# Altium schematic symbol library Capital.SchLib: 32 symbols
Pins are listed as number, name and electrical type; pins without a type are passive.

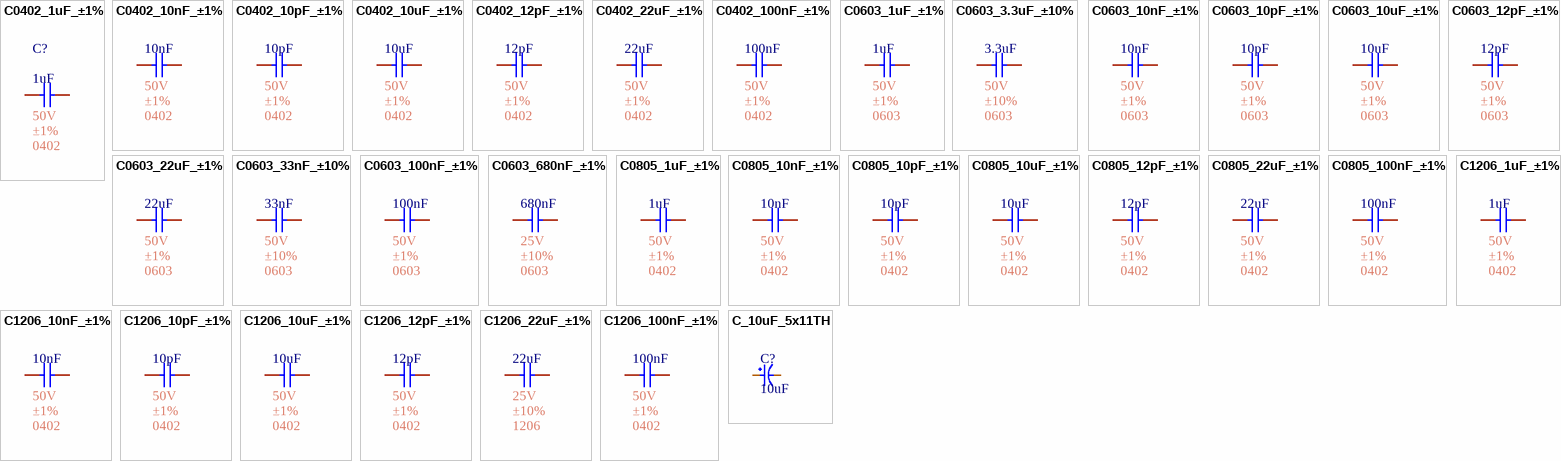
[diagram p0: symbols C0402_1uF_±1% to C_10uF_5x11TH]

## C0402_1uF_±1%
designator C?, comment 1uF  Tolerance: ±1%  Package: 0402  Voltage Rating: 50V
50V 10pF NP0 ±1% 0402 Multilayer Ceramic Capacitors MLCC - SMD/SMT ROHS; Manufacturer: YAGEO; Mfr. Part #: CC0402FRNPO9BN100; LCSC Part #: C513681; Link: https://www.lcsc.com/product-detail/C513681.html?s_z=n_capital%2520yageo%252010pF%25200402; Capacitance: 1uF
footprint C0402
pins: 1, 2

## C0402_10nF_±1%
designator C?, comment 10nF  Tolerance: ±1%  Package: 0402  Voltage Rating: 50V
50V 10pF NP0 ±1% 0402 Multilayer Ceramic Capacitors MLCC - SMD/SMT ROHS; Manufacturer: YAGEO; Mfr. Part #: CC0402FRNPO9BN100; LCSC Part #: C513681; Link: https://www.lcsc.com/product-detail/C513681.html?s_z=n_capital%2520yageo%252010pF%25200402; Capacitance: 10nF
footprint C0402
pins: 1, 2

## C0402_10pF_±1%
designator C?, comment 10pF  Tolerance: ±1%  Package: 0402  Voltage Rating: 50V
50V 10pF NP0 ±1% 0402 Multilayer Ceramic Capacitors MLCC - SMD/SMT ROHS; Manufacturer: YAGEO; Mfr. Part #: CC0402FRNPO9BN100; LCSC Part #: C513681; Link: https://www.lcsc.com/product-detail/C513681.html?s_z=n_capital%2520yageo%252010pF%25200402; Capacitance: 10pF
footprint C0402
pins: 1, 2

## C0402_10uF_±1%
designator C?, comment 10uF  Tolerance: ±1%  Package: 0402  Voltage Rating: 50V
50V 10pF NP0 ±1% 0402 Multilayer Ceramic Capacitors MLCC - SMD/SMT ROHS; Manufacturer: YAGEO; Mfr. Part #: CC0402FRNPO9BN100; LCSC Part #: C513681; Link: https://www.lcsc.com/product-detail/C513681.html?s_z=n_capital%2520yageo%252010pF%25200402; Capacitance: 10uF
footprint C0402
pins: 1, 2

## C0402_12pF_±1%
designator C?, comment 12pF  Tolerance: ±1%  Package: 0402  Voltage Rating: 50V
50V 10pF NP0 ±1% 0402 Multilayer Ceramic Capacitors MLCC - SMD/SMT ROHS; Manufacturer: YAGEO; Mfr. Part #: CC0402FRNPO9BN100; LCSC Part #: C513681; Link: https://www.lcsc.com/product-detail/C513681.html?s_z=n_capital%2520yageo%252010pF%25200402; Capacitance: 12pF
footprint C0402
pins: 1, 2

## C0402_22uF_±1%
designator C?, comment 22uF  Tolerance: ±1%  Package: 0402  Voltage Rating: 50V
50V 10pF NP0 ±1% 0402 Multilayer Ceramic Capacitors MLCC - SMD/SMT ROHS; Manufacturer: YAGEO; Mfr. Part #: CC0402FRNPO9BN100; LCSC Part #: C513681; Link: https://www.lcsc.com/product-detail/C513681.html?s_z=n_capital%2520yageo%252010pF%25200402; Capacitance: 22uF
footprint C0402
pins: 1, 2

## C0402_100nF_±1%
designator C?, comment 100nF  Tolerance: ±1%  Package: 0402  Voltage Rating: 50V
50V 10pF NP0 ±1% 0402 Multilayer Ceramic Capacitors MLCC - SMD/SMT ROHS; Manufacturer: YAGEO; Mfr. Part #: CC0402FRNPO9BN100; LCSC Part #: C513681; Link: https://www.lcsc.com/product-detail/C513681.html?s_z=n_capital%2520yageo%252010pF%25200402; Capacitance: 100nF
footprint C0402
pins: 1, 2

## C0603_1uF_±1%
designator C?, comment 1uF  Tolerance: ±1%  Package: 0603  Voltage Rating: 50V
50V 10pF NP0 ±1% 0402 Multilayer Ceramic Capacitors MLCC - SMD/SMT ROHS; Manufacturer: YAGEO; Mfr. Part #: CC0402FRNPO9BN100; LCSC Part #: C513681; Link: https://www.lcsc.com/product-detail/C513681.html?s_z=n_capital%2520yageo%252010pF%25200402; Capacitance: 1uF
footprint Model Name (Model Description)
footprint C0603
pins: 1, 2

## C0603_3.3uF_±10%
designator C?, comment 3.3uF  Tolerance: ±10%  Package: 0603  Voltage Rating: 50V
50V 10pF NP0 ±1% 0402 Multilayer Ceramic Capacitors MLCC - SMD/SMT ROHS; Manufacturer: muRata; Mfr. Part #: GCJ188C70J335KE02D; Temperature Coefficient: X7S; LCSC Part #: C710616; Link: https://www.lcsc.com/product-detail/C710616.html?s_z=n_Capita%25200603%25203.3uF%2520yageo; Capacitance: 3.3uF
footprint C0603
pins: 1, 2

## C0603_10nF_±1%
designator C?, comment 10nF  Tolerance: ±1%  Package: 0603  Voltage Rating: 50V
50V 10pF NP0 ±1% 0402 Multilayer Ceramic Capacitors MLCC - SMD/SMT ROHS; Manufacturer: YAGEO; Mfr. Part #: CC0402FRNPO9BN100; LCSC Part #: C513681; Link: https://www.lcsc.com/product-detail/C513681.html?s_z=n_capital%2520yageo%252010pF%25200402; Capacitance: 10nF
footprint C0603
pins: 1, 2

## C0603_10pF_±1%
designator C?, comment 10pF  Tolerance: ±1%  Package: 0603  Voltage Rating: 50V
50V 10pF NP0 ±1% 0402 Multilayer Ceramic Capacitors MLCC - SMD/SMT ROHS; Manufacturer: YAGEO; Mfr. Part #: CC0402FRNPO9BN100; LCSC Part #: C513681; Link: https://www.lcsc.com/product-detail/C513681.html?s_z=n_capital%2520yageo%252010pF%25200402; Capacitance: 10pF
footprint C0603
pins: 1, 2

## C0603_10uF_±1%
designator C?, comment 10uF  Tolerance: ±1%  Package: 0603  Voltage Rating: 50V
50V 10pF NP0 ±1% 0402 Multilayer Ceramic Capacitors MLCC - SMD/SMT ROHS; Manufacturer: YAGEO; Mfr. Part #: CC0402FRNPO9BN100; LCSC Part #: C513681; Link: https://www.lcsc.com/product-detail/C513681.html?s_z=n_capital%2520yageo%252010pF%25200402; Capacitance: 10uF
footprint C0603
pins: 1, 2

## C0603_12pF_±1%
designator C?, comment 12pF  Tolerance: ±1%  Package: 0603  Voltage Rating: 50V
50V 10pF NP0 ±1% 0402 Multilayer Ceramic Capacitors MLCC - SMD/SMT ROHS; Manufacturer: YAGEO; Mfr. Part #: CC0402FRNPO9BN100; LCSC Part #: C513681; Link: https://www.lcsc.com/product-detail/C513681.html?s_z=n_capital%2520yageo%252010pF%25200402; Capacitance: 12pF
footprint C0603
pins: 1, 2

## C0603_22uF_±1%
designator C?, comment 22uF  Tolerance: ±1%  Package: 0603  Voltage Rating: 50V
50V 10pF NP0 ±1% 0402 Multilayer Ceramic Capacitors MLCC - SMD/SMT ROHS; Manufacturer: YAGEO; Mfr. Part #: CC0402FRNPO9BN100; LCSC Part #: C513681; Link: https://www.lcsc.com/product-detail/C513681.html?s_z=n_capital%2520yageo%252010pF%25200402; Capacitance: 22uF
footprint C0603
pins: 1, 2

## C0603_33nF_±10%
designator C?, comment 33nF  Tolerance: ±10%  Package: 0603  Voltage Rating: 50V
100mW Thick Film Resistor 75V ±100ppm/℃ ±1% 470Ω 0603 Chip Resistor - Surface Mount ROHS; Manufacturer: YAGEO; Mfr. Part #: CC0603KRX7R9BB333; Temperature Coefficient: X7R; LCSC Part #: C106856; Link: https://www.lcsc.com/product-detail/C106856.html?s_z=n_capital%2520yageo%25200603%252033nF; Capacitance: 33nF
footprint C0603
pins: 1, 2

## C0603_100nF_±1%
designator C?, comment 100nF  Tolerance: ±1%  Package: 0603  Voltage Rating: 50V
50V 10pF NP0 ±1% 0402 Multilayer Ceramic Capacitors MLCC - SMD/SMT ROHS; Manufacturer: YAGEO; Mfr. Part #: CC0402FRNPO9BN100; LCSC Part #: C513681; Link: https://www.lcsc.com/product-detail/C513681.html?s_z=n_capital%2520yageo%252010pF%25200402; Capacitance: 100nF
footprint C0603
pins: 1, 2

## C0603_680nF_±1%
designator C?, comment 680nF  Tolerance: ±10%  Package: 0603  Voltage Rating: 25V
25V 680nF X5R ±10% 0603 Multilayer Ceramic Capacitors MLCC - SMD/SMT ROHS; Manufacturer: YAGEO; Mfr. Part #: CC0603KRX5R8BB684; LCSC Part #: C327005; Link: https://www.lcsc.com/product-detail/C327005.html?s_z=n_capital%2520yageo%2520680%2520nF%25200603; Capacitance: 680nF
footprint C0603
pins: 1, 2

## C0805_1uF_±1%
designator C?, comment 1uF  Tolerance: ±1%  Package: 0402  Voltage Rating: 50V
50V 10pF NP0 ±1% 0402 Multilayer Ceramic Capacitors MLCC - SMD/SMT ROHS; Manufacturer: YAGEO; Mfr. Part #: CC0402FRNPO9BN100; LCSC Part #: C513681; Link: https://www.lcsc.com/product-detail/C513681.html?s_z=n_capital%2520yageo%252010pF%25200402; Capacitance: 1uF
footprint C0805
pins: 1, 2

## C0805_10nF_±1%
designator C?, comment 10nF  Tolerance: ±1%  Package: 0402  Voltage Rating: 50V
50V 10pF NP0 ±1% 0402 Multilayer Ceramic Capacitors MLCC - SMD/SMT ROHS; Manufacturer: YAGEO; Mfr. Part #: CC0402FRNPO9BN100; LCSC Part #: C513681; Link: https://www.lcsc.com/product-detail/C513681.html?s_z=n_capital%2520yageo%252010pF%25200402; Capacitance: 10nF
footprint C0805
pins: 1, 2

## C0805_10pF_±1%
designator C?, comment 10pF  Tolerance: ±1%  Package: 0402  Voltage Rating: 50V
50V 10pF NP0 ±1% 0402 Multilayer Ceramic Capacitors MLCC - SMD/SMT ROHS; Manufacturer: YAGEO; Mfr. Part #: CC0402FRNPO9BN100; LCSC Part #: C513681; Link: https://www.lcsc.com/product-detail/C513681.html?s_z=n_capital%2520yageo%252010pF%25200402; Capacitance: 10pF
footprint C0805
pins: 1, 2

## C0805_10uF_±1%
designator C?, comment 10uF  Tolerance: ±1%  Package: 0402  Voltage Rating: 50V
50V 10pF NP0 ±1% 0402 Multilayer Ceramic Capacitors MLCC - SMD/SMT ROHS; Manufacturer: YAGEO; Mfr. Part #: CC0402FRNPO9BN100; LCSC Part #: C513681; Link: https://www.lcsc.com/product-detail/C513681.html?s_z=n_capital%2520yageo%252010pF%25200402; Capacitance: 10uF
footprint C0805
pins: 1, 2

## C0805_12pF_±1%
designator C?, comment 12pF  Tolerance: ±1%  Package: 0402  Voltage Rating: 50V
50V 10pF NP0 ±1% 0402 Multilayer Ceramic Capacitors MLCC - SMD/SMT ROHS; Manufacturer: YAGEO; Mfr. Part #: CC0402FRNPO9BN100; LCSC Part #: C513681; Link: https://www.lcsc.com/product-detail/C513681.html?s_z=n_capital%2520yageo%252010pF%25200402; Capacitance: 12pF
footprint C0805
pins: 1, 2

## C0805_22uF_±1%
designator C?, comment 22uF  Tolerance: ±1%  Package: 0402  Voltage Rating: 50V
50V 10pF NP0 ±1% 0402 Multilayer Ceramic Capacitors MLCC - SMD/SMT ROHS; Manufacturer: YAGEO; Mfr. Part #: CC0402FRNPO9BN100; LCSC Part #: C513681; Link: https://www.lcsc.com/product-detail/C513681.html?s_z=n_capital%2520yageo%252010pF%25200402; Capacitance: 22uF
footprint C0805
pins: 1, 2

## C0805_100nF_±1%
designator C?, comment 100nF  Tolerance: ±1%  Package: 0402  Voltage Rating: 50V
50V 10pF NP0 ±1% 0402 Multilayer Ceramic Capacitors MLCC - SMD/SMT ROHS; Manufacturer: YAGEO; Mfr. Part #: CC0402FRNPO9BN100; LCSC Part #: C513681; Link: https://www.lcsc.com/product-detail/C513681.html?s_z=n_capital%2520yageo%252010pF%25200402; Capacitance: 100nF
footprint C0805
pins: 1, 2

## C1206_1uF_±1%
designator C?, comment 1uF  Tolerance: ±1%  Package: 0402  Voltage Rating: 50V
50V 10pF NP0 ±1% 0402 Multilayer Ceramic Capacitors MLCC - SMD/SMT ROHS; Manufacturer: YAGEO; Mfr. Part #: CC0402FRNPO9BN100; LCSC Part #: C513681; Link: https://www.lcsc.com/product-detail/C513681.html?s_z=n_capital%2520yageo%252010pF%25200402; Capacitance: 1uF
footprint C1206
pins: 1, 2

## C1206_10nF_±1%
designator C?, comment 10nF  Tolerance: ±1%  Package: 0402  Voltage Rating: 50V
50V 10pF NP0 ±1% 0402 Multilayer Ceramic Capacitors MLCC - SMD/SMT ROHS; Manufacturer: YAGEO; Mfr. Part #: CC0402FRNPO9BN100; LCSC Part #: C513681; Link: https://www.lcsc.com/product-detail/C513681.html?s_z=n_capital%2520yageo%252010pF%25200402; Capacitance: 10nF
footprint C1206
pins: 1, 2

## C1206_10pF_±1%
designator C?, comment 10pF  Tolerance: ±1%  Package: 0402  Voltage Rating: 50V
50V 10pF NP0 ±1% 0402 Multilayer Ceramic Capacitors MLCC - SMD/SMT ROHS; Manufacturer: YAGEO; Mfr. Part #: CC0402FRNPO9BN100; LCSC Part #: C513681; Link: https://www.lcsc.com/product-detail/C513681.html?s_z=n_capital%2520yageo%252010pF%25200402; Capacitance: 10pF
footprint C1206
pins: 1, 2

## C1206_10uF_±1%
designator C?, comment 10uF  Tolerance: ±1%  Package: 0402  Voltage Rating: 50V
50V 10pF NP0 ±1% 0402 Multilayer Ceramic Capacitors MLCC - SMD/SMT ROHS; Manufacturer: YAGEO; Mfr. Part #: CC0402FRNPO9BN100; LCSC Part #: C513681; Link: https://www.lcsc.com/product-detail/C513681.html?s_z=n_capital%2520yageo%252010pF%25200402; Capacitance: 10uF
footprint C1206
pins: 1, 2

## C1206_12pF_±1%
designator C?, comment 12pF  Tolerance: ±1%  Package: 0402  Voltage Rating: 50V
50V 10pF NP0 ±1% 0402 Multilayer Ceramic Capacitors MLCC - SMD/SMT ROHS; Manufacturer: YAGEO; Mfr. Part #: CC0402FRNPO9BN100; LCSC Part #: C513681; Link: https://www.lcsc.com/product-detail/C513681.html?s_z=n_capital%2520yageo%252010pF%25200402; Capacitance: 12pF
footprint C1206
pins: 1, 2

## C1206_22uF_±1%
designator C?, comment 22uF  Tolerance: ±10%  Package: 1206  Voltage Rating: 25V
25V 22uF X5R ±10% 1206 Multilayer Ceramic Capacitors MLCC - SMD/SMT ROHS; Manufacturer: YAGEO; Mfr. Part #: CC1206KKX5R8BB226; LCSC Part #: C2178233; Link: https://www.lcsc.com/product-detail/C2178233.html?s_z=n_capital%25201206%252022uf%2520yageo; Capacitance: 22uF
footprint C1206
pins: 1, 2

## C1206_100nF_±1%
designator C?, comment 100nF  Tolerance: ±1%  Package: 0402  Voltage Rating: 50V
50V 10pF NP0 ±1% 0402 Multilayer Ceramic Capacitors MLCC - SMD/SMT ROHS; Manufacturer: YAGEO; Mfr. Part #: CC0402FRNPO9BN100; LCSC Part #: C513681; Link: https://www.lcsc.com/product-detail/C513681.html?s_z=n_capital%2520yageo%252010pF%25200402; Capacitance: 100nF
footprint C1206
pins: 1, 2

## C_10uF_5x11TH
designator C?, comment 10uF
10uF 50V ±20% Through Hole,D5xL11mm Aluminum Electrolytic Capacitors - Leaded ROHS; Manufacturer: Rubycon; Mfr. Part #: 50YXF10MEFC5X11; Key Attributes: CAP ALUM 10uF ±20% 50V TH; Pin Spacing: 2mm; LCSC Part #: C88726; Package: Through Hole,D5xL11mm; Tolerance: ±20%; Voltage Rating: 50V; Capacitance: 10uF; Link: https://www.lcsc.com/product-detail/C88726.html?s_z=n_electrolytic%252010uF
footprint C_TH_5x11mm
pins: 1, 2